# Altium footprint library PCB - CONNECTOR - WURTH - WURTH 693043020611.PCBLIB: 1 footprints
Each footprint in its own frame and in the unit in brackets; x right, y up, seen from the top. Pads: shape width x height; smd on the part's side, far side on the other; paste and mask are expansions set on the pad; w line width, h text height; cw(c..) or ccw(c..) is an arc to the next point about the centre after c.
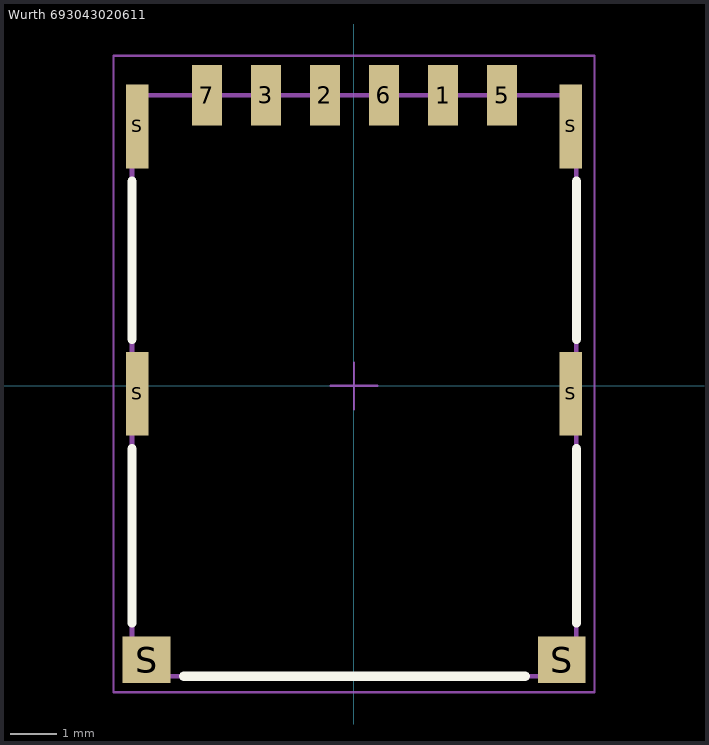
[diagram p0: the footprint, top view; thin cyan lines are the x and y axes]

## Wurth 693043020611 [mm] "Nano SIM Card Connector Push & Pull - 6 Pins"
height 1.2
pads (12):
  rect 0.65x1.3 smd: 1(1.915,6.25) 2(-0.625,6.25) 3(-1.895,6.25) 5(3.185,6.25) 6(0.645,6.25) 7(-3.165,6.25)
  rect 0.48x1.8 smd: S(-4.665,-0.17) S(-4.665,5.58) S(4.665,-0.17) S(4.665,5.58)
  rect 1.03x1 smd: S(-4.46,-5.89) S(4.47,-5.89)
Top Overlay:
  lines w0.2: -4.775,-5.1 -4.775,-1.35 ; -4.775,1 -4.775,4.4 ; -3.665,-6.25 3.685,-6.25 ; 4.785,-5.1 4.785,-1.35 ; 4.785,1 4.785,4.4
Mechanical 13:
  lines w0.1: -4.775,-6.25 -4.775,6.25 4.785,6.25 4.785,-6.25 -4.775,-6.25
Mechanical 15:
  lines w0.05: -0.5,0 0.5,0 ; 0,-0.5 0,0.5 ; -5.175,-6.59 5.175,-6.59 5.175,7.1 -5.175,7.1 -5.175,-6.59
3D body "Wurth - 693043020611.step": height 1.2, standoff -0.01, extent -4.75,-6.25 4.75,6.25